# Altium schematic symbol library SODFL3616X98N.SchLib: 1 symbol
Pins are listed as number, name and electrical type; pins without a type are passive.

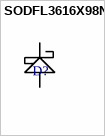
[diagram p0: symbol SODFL3616X98N]

## SODFL3616X98N
designator D?
footprint Model Name (Footprint not found)
footprint SODFL3616X98N (Footprint not found)
footprint SODFL3616X98N
pins: A, C